# Altium footprint library PCB库.PcbLib: 44 footprints (part 2 of 3)
Each footprint in its own frame and in the unit in brackets; x right, y up, seen from the top. Pads: shape width x height; smd on the part's side, far side on the other; paste and mask are expansions set on the pad; w line width, h text height; cw(c..) or ccw(c..) is an arc to the next point about the centre after c.
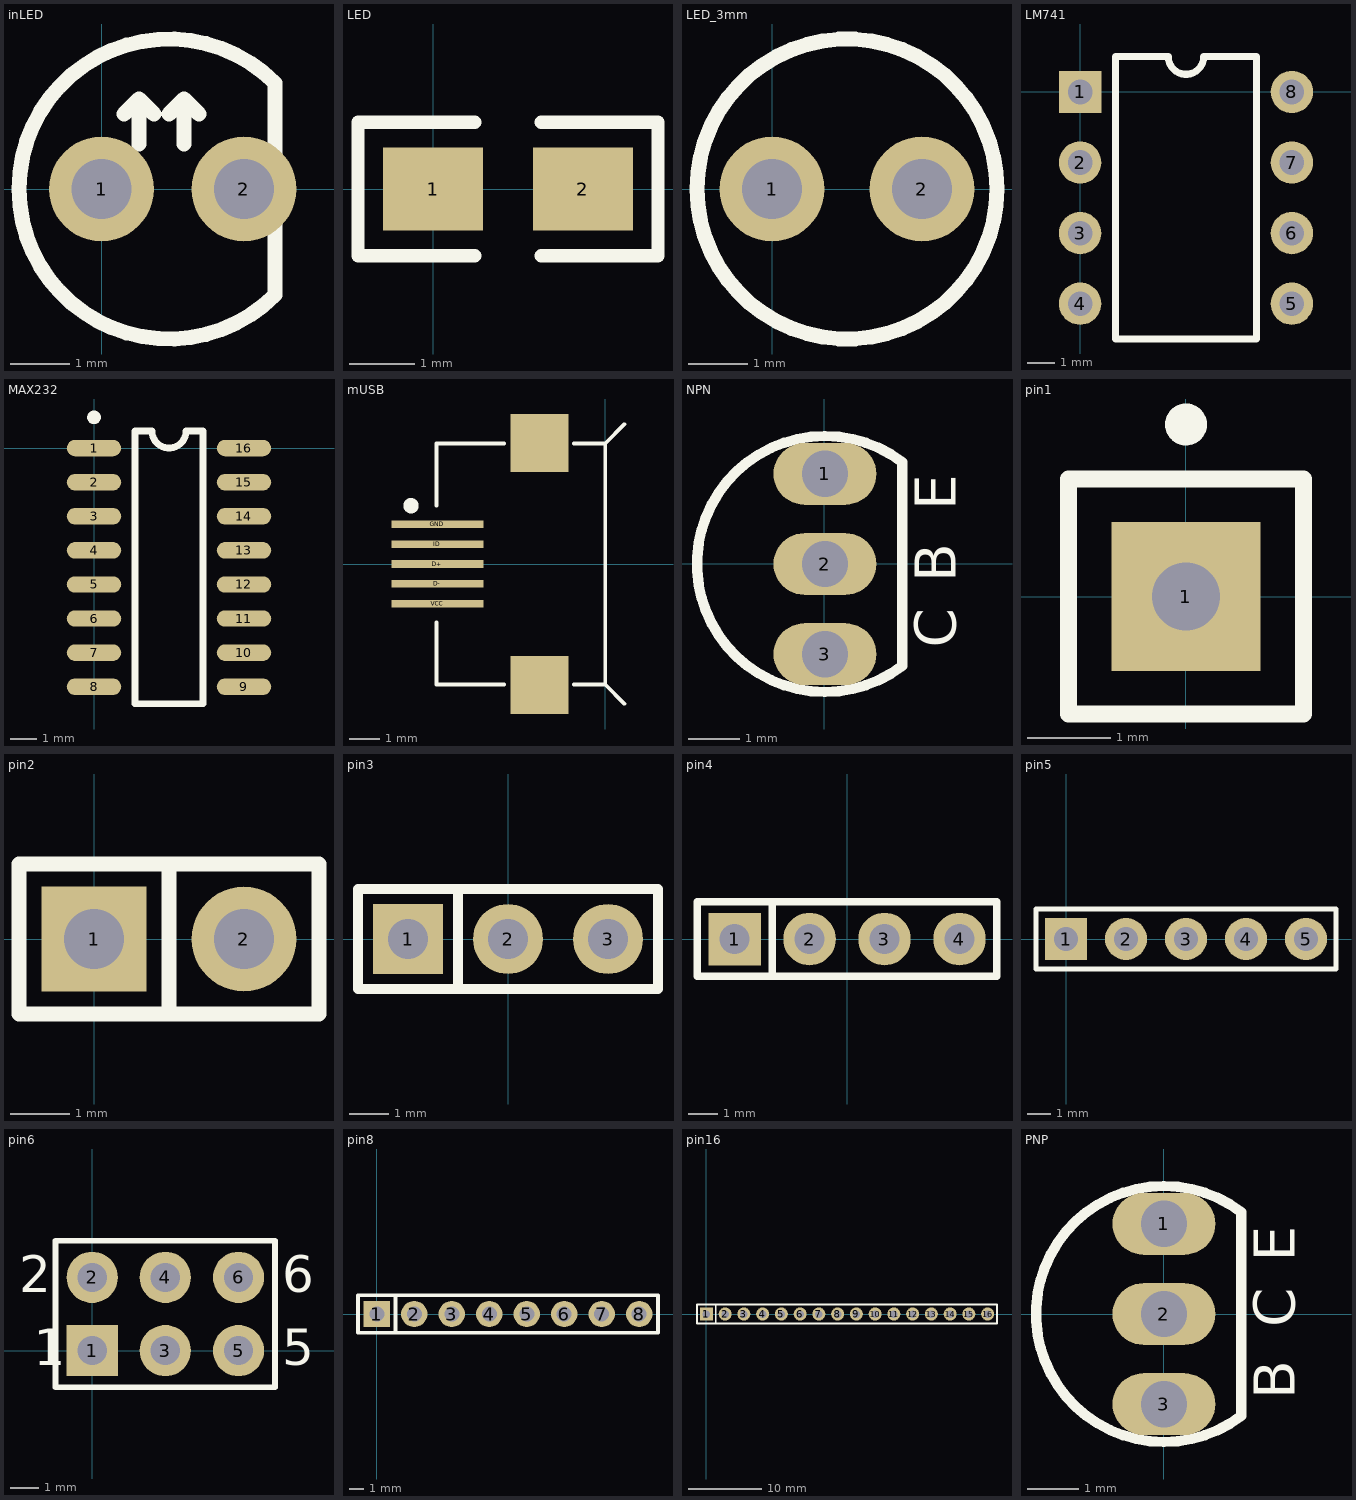
[diagram p1: the footprints below, top view; thin cyan lines are the x and y axes]

## inLED [mil]
pads (2):
  round 70 hole 40: 1(0,0) 2(95,0)
Top Overlay:
  lines w10: 15,50 25,60 ; 25,30 25,60 ; 35,50 25,60 ; 45,50 55,60 ; 55,30 55,60 ; 65,50 55,60 ; 115.71,-70.71 cw(c45,0) 115.71,70.71 115.71,-70.71

## LED [mil]
pads (2):
  rect 60x50 smd: 1(0,0) 2(90,0)
Top Overlay:
  lines w8: 25,-40 -45,-40 -45,40 25,40 ; 65,-40 135,-40 135,40 65,40

## LED_3mm [mil]
pads (2):
  round 70 hole 40: 1(0,0) 2(100,0)
Top Overlay:
  circle w10: c50,0 r100

## LM741 [mil]
pads (8):
  rect 60x60 hole 35: 1(0,0)
  round 60 hole 35: 2(0,-100) 3(0,-200) 4(0,-300) 5(300,-300) 6(300,-200) 7(300,-100) 8(300,0)
Top Overlay:
  lines w10: 50,-350 250,-350 250,50 175,50 cw(c150,50) 125,50 50,50 50,-350

## MAX232 [mil]
pads (16):
  oval 80x24 smd: 1(0,0) 2(0,-50) 3(0,-100) 4(0,-150) 5(0,-200) 6(0,-250) 7(0,-300) 8(0,-350) 9(220,-350) 10(220,-300) 11(220,-250) 12(220,-200) 13(220,-150) 14(220,-100) 15(220,-50) 16(220,0)
Top Overlay:
  circle w10: c0,45 r5
  lines w10: 60,-375 160,-375 160,25 135,25 cw(c110,25) 85,25 60,25 60,-375

## mUSB [mm]
pads (7):
  rect 3x0.25 smd: D+(-5.486,0) D-(-5.486,-0.65) GND(-5.486,1.3) ID(-5.486,0.65) VCC(-5.486,-1.3)
  rect 1.9x1.9 smd: ""(-2.15,-3.95) ""(-2.15,3.95)
Top Overlay:
  circle w0.25: c-6.348,1.905 r0.125
  lines w0.127: -5.508,-3.937 -3.302,-3.937 ; -5.508,-3.9 -5.508,-1.905 ; -5.508,1.905 -5.508,3.9 ; -5.508,3.937 -3.302,3.937 ; -1.016,-3.937 0,-3.937 0.63,-4.567 ; -1.016,3.937 0,3.937 0.63,4.567 ; 0,-3.9 0,3.9

## NPN [mm]
pads (3):
  oval 2x1.2 hole 0.9: 1(0.01,1.749) 2(0.01,-0.001) 3(0.01,-1.751)
Top Overlay:
  lines w0.2: 1.51,-1.981 cw(c0.01,-0.001) 1.51,1.979 1.51,-1.981
  text "B" at 2.55,-0.357 h0.8
  text "C" at 2.55,-1.627 h0.8
  text "E" at 2.55,1.04 h0.8
3D body: height 3, standoff -2, extent -0.398,1.355 0.424,2.177
3D body: height 3, standoff -2, extent -0.398,-2.15 0.424,-1.328
3D body: height 3, standoff -2, extent -0.411,-0.411 0.411,0.411
3D body: height 7, standoff 3, extent -2.486,-2.497 1.512,2.496

## pin1 [mil]
pads (1):
  rect 70x70 hole 32: 1(0,0)
Top Overlay:
  circle w9.84: c0,80.71 r4.92
  lines w7.87: -55.12,-55.12 55.12,-55.12 55.12,55.12 -55.12,55.12 -55.12,-55.12

## pin2 [mil]
pads (2):
  rect 70x70 hole 40: 1(0,0)
  round 70 hole 40: 2(100,0)
Top Overlay:
  lines w10: 50,-50 50,50 ; -50,-50 -50,50 150,50 150,-50 -50,-50

## pin3 [mil]
pads (3):
  rect 70x70 hole 40: 1(-100,0)
  round 70 hole 40: 2(0,0) 3(100,0)
Top Overlay:
  lines w10: -50,-50 -50,50 ; -150,-50 -150,50 150,50 150,-50 -150,-50

## pin4 [mil]
pads (4):
  rect 70x70 hole 40: 1(-150,0)
  round 70 hole 40: 2(-50,0) 3(50,0) 4(150,0)
Top Overlay:
  lines w10: -100,-50 -100,50 ; -200,-50 200,-50 200,50 -200,50 -200,-50

## pin5 [mil]
pads (5):
  rect 70x70 hole 40: 1(0,0)
  round 70 hole 40: 2(100,0) 3(200,0) 4(300,0) 5(400,0)
Top Overlay:
  lines w7.87: -50,-50 -50,50 450,50 450,-50 -50,-50

## pin6 [mil]
pads (6):
  rect 70x70 hole 40: 1(0,0)
  round 70 hole 40: 2(0,100) 3(100,0) 4(100,100) 5(200,0) 6(200,100)
Top Overlay:
  lines w7.87: 58.33,-50 250,-50 ; 250,-50 250,150 -50,150 -50,-50 250,-50
  text "6" at 260,80 h50
  text "5" at 260,-20 h50
  text "2" at -100,80 h50
  text "1" at -80,-20 h50

## pin8 [mil]
pads (8):
  rect 70x70 hole 40: 1(0,0)
  round 70 hole 40: 2(100,0) 3(200,0) 4(300,0) 5(400,0) 6(500,0) 7(600,0) 8(700,0)
Top Overlay:
  lines w10: 50,-50 50,50 ; -50,-50 -50,50 750,50 750,-50 -50,-50

## pin16 [mil]
pads (16):
  rect 70x70 hole 40: 1(0,0)
  round 70 hole 40: 2(100,0) 3(200,0) 4(300,0) 5(400,0) 6(500,0) 7(600,0) 8(700,0) 9(800,0) 10(900,0) 11(1000,0) 12(1100,0) 13(1200,0) 14(1300,0) 15(1400,0) 16(1500,0)
Top Overlay:
  lines w10: 50,-50 50,50 ; -50,-50 1550,-50 1550,50 -50,50 -50,-50

## PNP [mm]
pads (3):
  oval 2x1.2 hole 0.9: 1(0,1.75) 2(0,0) 3(0,-1.75)
Top Overlay:
  lines w0.2: 1.5,-1.98 cw(c0,0) 1.5,1.98 1.5,-1.98
  text "E" at 2.54,1.016 h0.8
  text "C" at 2.54,-0.254 h0.8
  text "B" at 2.54,-1.651 h0.8
3D body: height 7, standoff 3, extent -2.497,-2.497 1.501,2.497
3D body: height 3, standoff -2, extent -0.421,-0.41 0.401,0.412
3D body: height 3, standoff -2, extent -0.409,-2.149 0.413,-1.327
3D body: height 3, standoff -2, extent -0.409,1.356 0.413,2.178